# Altium schematic symbol library SN74HC02DR.SchLib: 1 symbol
Pins are listed as number, name and electrical type; pins without a type are passive.

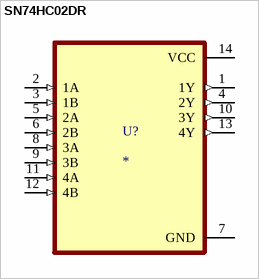
[diagram p0: symbol SN74HC02DR]

## SN74HC02DR
designator U?
MP: SN74HC02DR; Package: None; Price: None; Value: *; Availability: Unavailable
pins: 1 1Y (out), 2 1A (in), 3 1B (in), 4 2Y (out), 5 2A (in), 6 2B (in), 7 GND (power), 8 3A (in), 9 3B (in), 10 3Y (out), 11 4A (in), 12 4B (in), 13 4Y (out), 14 VCC (power)